# Altium schematic symbol library SCH - DRIVER - LED - TI TPS92518HV-Q1PWP.SchLib: 1 symbol
Pins are listed as number, name and electrical type; pins without a type are passive.

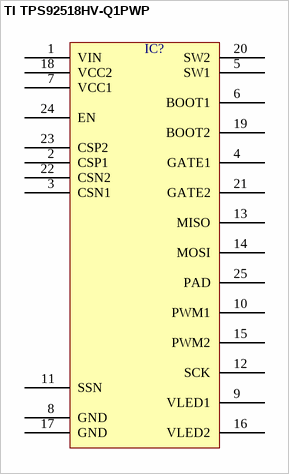
[diagram p0: symbol TI TPS92518HV-Q1PWP]

## TI TPS92518HV-Q1PWP
designator IC?  (value not drawn)
pins: 1 VIN, 2 CSP1, 3 CSN1, 4 GATE1, 5 SW1, 6 BOOT1, 7 VCC1, 8 GND, 9 VLED1, 10 PWM1, 11 SSN, 12 SCK, 13 MISO, 14 MOSI, 15 PWM2, 16 VLED2, 17 GND, 18 VCC2, 19 BOOT2, 20 SW2, 21 GATE2, 22 CSN2, 23 CSP2, 24 EN, 25 PAD